# EAGLE library part RASPIA+ (library pierre_vv)
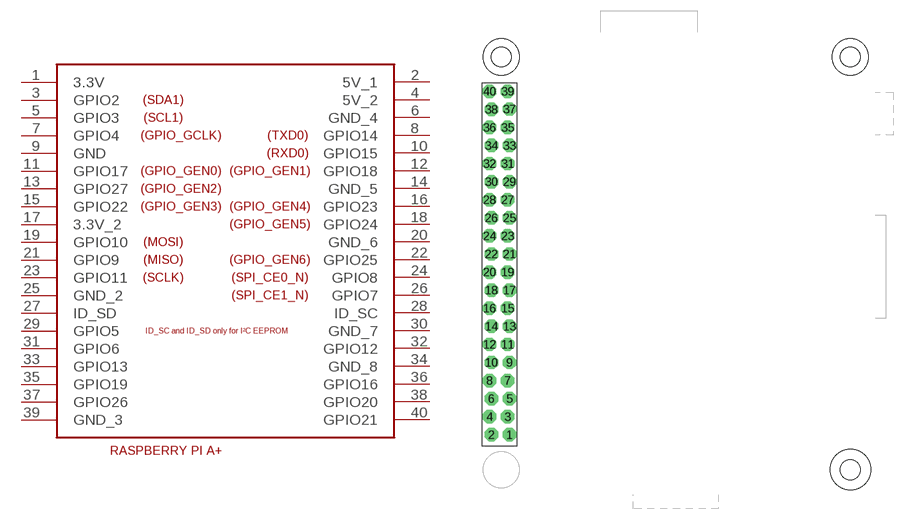
[diagram p7: symbol with the pads of RASPIA+; footprint RASPIA+]

Designator prefix -

## RASPIA+  [RASPIA+]
1  3.3V
2  5V_1
3  GPIO2
4  5V_2
5  GPIO3
6  GND_4
7  GPIO4
8  GPIO14
9  GND
10  GPIO15
11  GPIO17
12  GPIO18
13  GPIO27
14  GND_5
15  GPIO22
16  GPIO23
17  3.3V_2
18  GPIO24
19  GPIO10
20  GND_6
21  GPIO9
22  GPIO25
23  GPIO11
24  GPIO8
25  GND_2
26  GPIO7
27  ID_SD
28  ID_SC
29  GPIO5
30  GND_7
31  GPIO6
32  GPIO12
33  GPIO13
34  GND_8
35  GPIO19
36  GPIO16
37  GPIO26
38  GPIO20
39  GND_3
40  GPIO21

## Footprint RASPIA+ (pad centres in mm)
drill 0.9 pad 1.88 octagon: 1 -51.353,-56.59; 2 -53.893,-56.59; 3 -51.607,-54.05; 4 -54.147,-54.05; 5 -51.353,-51.51; 6 -53.893,-51.51; 7 -51.607,-48.97; 8 -54.147,-48.97; 9 -51.353,-46.43; 10 -53.893,-46.43; 11 -51.607,-43.89; 12 -54.147,-43.89; 13 -51.353,-41.35; 14 -53.893,-41.35; 15 -51.607,-38.81; 16 -54.147,-38.81; 17 -51.353,-36.27; 18 -53.893,-36.27; 19 -51.607,-33.73; 20 -54.147,-33.73; 21 -51.353,-31.19; 22 -53.893,-31.19; 23 -51.607,-28.65; 24 -54.147,-28.65; 25 -51.353,-26.11; 26 -53.893,-26.11; 27 -51.607,-23.57; 28 -54.147,-23.57; 29 -51.353,-21.03; 30 -53.893,-21.03; 31 -51.607,-18.49; 32 -54.147,-18.49; 33 -51.353,-15.95; 34 -53.893,-15.95; 35 -51.607,-13.41; 36 -54.147,-13.41; 37 -51.353,-10.83; 38 -53.893,-10.87; 39 -51.607,-8.33; 40 -54.147,-8.33
hole 2.8 at -52.5,-3.5
hole 2.8 at -3.5,-3.5
hole 2.8 at -3.5,-61.5